# Altium integrated library Atmel.IntLib: 1 symbol
Pins are listed as number, name and electrical type; pins without a type are passive.

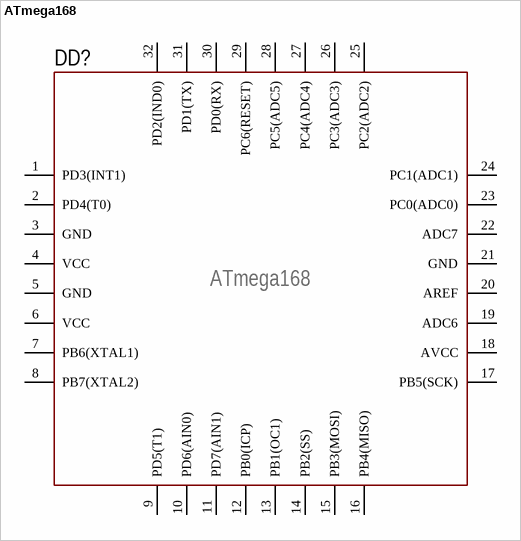
[diagram p0: symbol ATmega168]

## ATmega168
designator DD?, comment Part: ATmega168  (hidden comment: ATmega168-20AU)
MCU 8Bit, 16 KB Flash,10 or 20 MHZ; Speed: 20; Case: AU
footprint TQFP-32 (TQFP, 32-Leads, Body 7,00x7,00mm, Pitch 0,80mm, IPC Medium Density)
pins: 1 PD3(INT1), 2 PD4(T0), 3 GND (power), 4 VCC (power), 5 GND (power), 6 VCC (power), 7 PB6(XTAL1), 8 PB7(XTAL2), 9 PD5(T1), 10 PD6(AIN0), 11 PD7(AIN1), 12 PB0(ICP), 13 PB1(OC1), 14 PB2(SS), 15 PB3(MOSI), 16 PB4(MISO), 17 PB5(SCK), 18 AVCC (power), 19 ADC6, 20 AREF, 21 GND (power), 22 ADC7, 23 PC0(ADC0), 24 PC1(ADC1), 25 PC2(ADC2), 26 PC3(ADC3), 27 PC4(ADC4), 28 PC5(ADC5), 29 PC6(RESET), 30 PD0(RX), 31 PD1(TX), 32 PD2(IND0)